# Altium footprint library IC's.PcbLib: 37 footprints (part 3 of 3)
Each footprint in its own frame and in the unit in brackets; x right, y up, seen from the top. Pads: shape width x height; smd on the part's side, far side on the other; paste and mask are expansions set on the pad; w line width, h text height; cw(c..) or ccw(c..) is an arc to the next point about the centre after c.
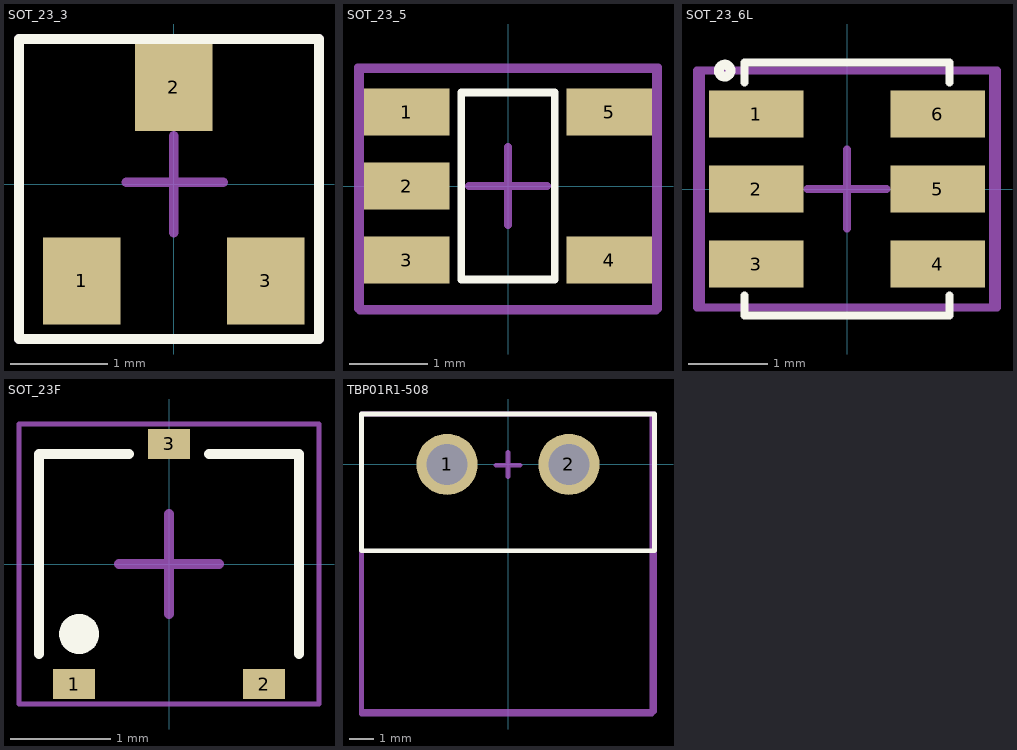
[diagram p2: the footprints below, top view; thin cyan lines are the x and y axes]

## SOT_23_3 [mm]
pads (3):
  rect 0.8x0.9 smd mask+0.05: 1(-0.95,-1) 2(0,1) 3(0.95,-1)
Top Overlay:
  lines w0.1: -1.6,-1.6 1.5,-1.6 1.5,1.5 -1.6,1.5 -1.6,-1.6
Top Component Center:
  lines w0.1: -0.49,0.021 0.51,0.021 ; 0,-0.5 0,0.5 ; -1.6,-1.6 -1.6,1.5 -1.5,1.5 1.5,1.5 1.5,-1.6 -1.6,-1.6
Top Designator:
  lines w0.1: -1.6,-1.6 1.5,-1.6 1.5,1.5 -1.6,1.5 -1.6,-1.6
  text ".Designator" at -0.6,-0.233 h0.5
3D body "SOT_23_3.step": height 0.95, standoff -0.07, extent -1.46,-1.25 1.46,1.226

## SOT_23_5 [mm]
pads (5):
  rect 1.1x0.6 smd mask+0.05: 1(-1.3,0.95) 2(-1.3,0) 3(-1.3,-0.95) 4(1.3,-0.95) 5(1.3,0.95)
Top Overlay:
  lines w0.1: -0.6,-1.2 0.6,-1.2 0.6,1.2 -0.1,1.2 -0.6,1.2 -0.6,0.7 -0.6,-1.2
Top Component Center:
  lines w0.1: -0.5,0 0.5,0 ; 0,-0.5 0,0.5 ; -1.925,-1.575 1.925,-1.575 1.925,1.525 -1.925,1.525 -1.925,-1.575
Top Designator:
  lines w0.1: -1.9,-1.6 1.9,-1.6 1.9,1.5 -1.9,1.5 -1.9,-1.6
  text ".Designator" at -0.75,-0.283 h0.8
3D body "SOT_23_5.stp": height 1, standoff 0, extent -1.2,-1.45 1.2,1.45

## SOT_23_6L [mm]
pads (6):
  rect 1.2x0.6 smd mask+0.05: 1(-1.15,0.95) 2(-1.15,0) 3(-1.15,-0.95) 4(1.15,-0.95) 5(1.15,0) 6(1.15,0.95)
Top Overlay:
  circle w0.125: c-1.55,1.5 r0.075
  lines w0.1: -1.3,-1.35 -1.3,-1.6 1.3,-1.6 1.3,-1.35 ; -1.3,1.35 -1.3,1.6 1.3,1.6 1.3,1.35
Top Component Center:
  lines w0.1: -0.5,0 0.5,0 ; 0,-0.5 0,0.5 ; -1.85,-1.5 -1.85,1.5 1.85,1.5 1.85,-1.5 -1.85,-1.5
Top Designator:
  lines w0.1: -1.9,-1.5 -1.9,1.5 1.9,1.5 1.9,-1.5 -1.9,-1.5
  text ".Designator" at -0.4,-0.183 h0.5
3D body "SOT_23_6.stp": height 1, standoff 0, extent -1.2,-1.45 1.2,1.45

## SOT_23F [mm]
pads (3):
  rect 0.42x0.3 smd mask+0.05: 1(-0.95,-1.2) 2(0.95,-1.2) 3(0,1.2)
Top Overlay:
  circle w0.2: c-0.9,-0.7 r0.1
  lines w0.1: -1.3,-0.9 -1.3,1.1 -0.4,1.1 ; 0.4,1.1 1.3,1.1 1.3,-0.9
Top Component Center:
  lines w0.05: -1.5,-1.4 -1.5,-1.3 -1.5,1.4 1.5,1.4 1.5,-1.4 -1.5,-1.4
  lines w0.1: -0.5,0 0.5,0 ; 0,-0.5 0,0.5
Top Designator:
  lines w0.05: -1.5,-1.4 -1.5,1.4 1.5,1.4 1.5,-1.4 -1.5,-1.4
3D body "SOT23F-1.STEP": height 0.91, standoff 0, extent -1.45,-1.2 1.45,1.2

## TBP01R1-508 [mm]
pads (2):
  round 2.55 hole 1.7: 1(-2.54,0) 2(2.54,0)
Top Overlay:
  lines w0.2: -6.1,-3.6 -6.1,2.1 6.1,2.1 6.1,-3.6 -6.1,-3.6
Top Component Center:
  lines w0.2: -0.499,-0.032 0.501,-0.032 ; 0,-0.5 0,0.5 ; -6.1,-10.4 -6.1,2.1 6,2.1 6,-10.4 -6.1,-10.4
Top Designator:
  lines w0.2: -6.1,-10.3 -6.1,2.1 6.1,2.1 6.1,-10.3 -6.1,-10.3
  text ".Designator" at -2.046,-0.638 h1.52
3D body "TBP01R1_508_02BE.step": height 8.55, standoff -3.95, extent -5.9,-10.1 5.86,1.9